# Altium schematic symbol library 88E1118.SchLib: 1 symbol
Pins are listed as number, name and electrical type; pins without a type are passive.

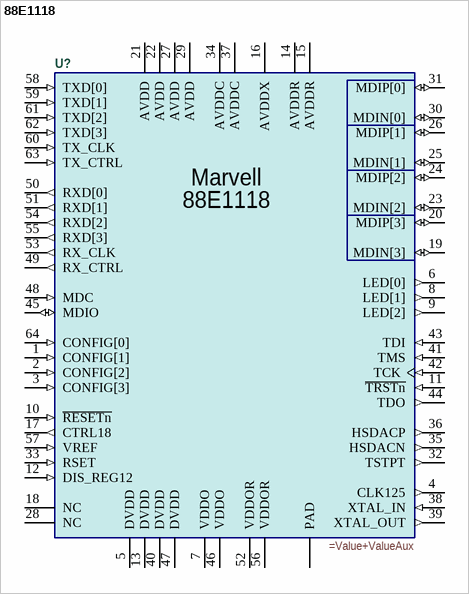
[diagram p0: symbol 88E1118]

## 88E1118
designator U?
=Description
pins: 1 CONFIG[1] (in), 2 CONFIG[2] (in), 3 CONFIG[3] (in), 4 CLK125 (out), 5 DVDD (power), 6 LED[0] (out), 7 VDDO (power), 8 LED[1] (out), 9 LED[2] (out), 10 ~{RESETn} (in), 11 ~{TRSTn} (in), 12 DIS_REG12 (in), 13 DVDD (power), 14 AVDDR (power), 15 AVDDR (power), 16 AVDDX (power), 17 CTRL18 (out), 18 NC, 19 MDIN[3] (io), 20 MDIP[3] (io), 21 AVDD (power), 22 AVDD (power), 23 MDIN[2] (io), 24 MDIP[2] (io), 25 MDIN[1] (io), 26 MDIP[1] (io), 27 AVDD (power), 28 NC, 29 AVDD (power), 30 MDIN[0] (io), 31 MDIP[0] (io), 32 TSTPT (out), 33 RSET (in), 34 AVDDC (power), 35 HSDACN (out), 36 HSDACP (out), 37 AVDDC (power), 38 XTAL_IN (in), 39 XTAL_OUT (out), 40 DVDD (power), 41 TMS (in), 42 TCK (in), 43 TDI (in), 44 TDO (out), 45 MDIO (io), 46 VDDO (power), 47 DVDD (power), 48 MDC (in), 49 RX_CTRL (out), 50 RXD[0] (out), 51 RXD[1] (out), 52 VDDOR (power), 53 RX_CLK (out), 54 RXD[2] (out), 55 RXD[3] (out), 56 VDDOR (power), 57 VREF (in), 58 TXD[0] (in), 59 TXD[1] (in), 60 TX_CLK (in), 61 TXD[2] (in), 62 TXD[3] (in), 63 TX_CTRL (in), 64 CONFIG[0] (in), PAD (power)
text: Marvell